# EAGLE library part 1X8-90 (library JLB6_Connec)
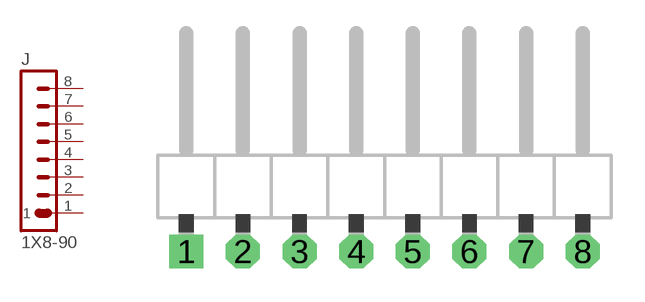
[diagram p12: symbol with the pads of 1X8-90; footprint 1X8-90]

Designator prefix J

## 1X8-90  [1X8-90]
1  1  pas
2  2  pas
3  3  pas
4  4  pas
5  5  pas
6  6  pas
7  7  pas
8  8  pas

## Footprint 1X8-90 (pad centres in mm)
drill 1.016 square: 1 -8.89,-1.27
drill 1.016 octagon: 2 -6.35,-1.27; 3 -3.81,-1.27; 4 -1.27,-1.27; 5 1.27,-1.27; 6 3.81,-1.27; 7 6.35,-1.27; 8 8.89,-1.27